# Altium integrated library TI_Logic_Little_Logic.IntLib: 1164 symbols (part 8 of 35)
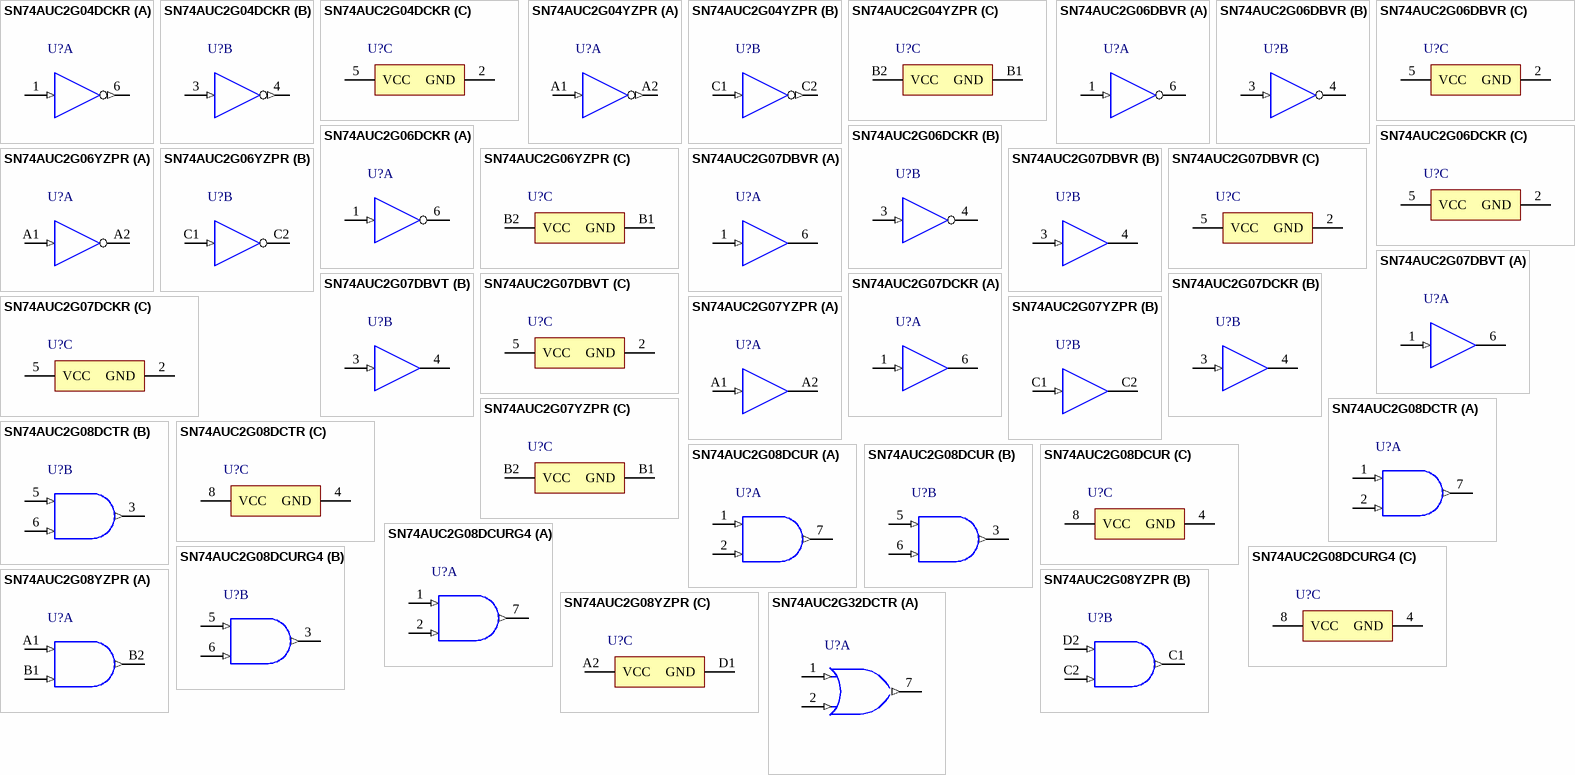
[diagram p67: symbols SN74AUC2G04DCKR to SN74AUC2G32DCTR]

## SN74AUC2G07DCKR
designator U?
Dual Buffer/Driver with Open-Drain Outputs, DCK0006A, LARGE T&R; Generic Part Number: SN74AUC2G07; Manufacturer: Texas Instruments; PartNumber: SN74AUC2G07DCKR; VCC(Min)(V): 1.8; VCC(Max)(V): 2.7; Output Type: CMOS; ICC @ Nom Voltage(Max)(mA): 0.01; Bits(#): 2; F @ Nom Voltage(Max)(Mhz): 250; Rating: Catalog; Technology Family: AUC; Voltage(Nom)(V): 0.8,1.2,1.5,1.8,2.5; Schmitt Trigger: No; Output Drive (IOL/IOH)(Max)(mA): 9/-9; tpd @ Nom Voltage(Max)(ns): 4.3,3,2.2,2.5,1.6; Logic: True; Sub-Family: Non-Inverting Buffer/Driver; DatasheetVersion: SCES443D; PackageReference: DCK0006A; Supplier 1: Mouser; Supplier Part Number 1: 595-SN74AUC2G07DCKR; Supplier 2: Digi-Key; Supplier Part Number 2: 296-18763-2-ND; Supplier 3: Digi-Key; Supplier Part Number 3: 296-18763-1-ND; Supplier 4: Digi-Key; Supplier Part Number 4: 296-18763-6-ND; Input Type: CMOS; Operating Temperature Range(C): -40 to 85; 3-State Output: No; ComponentLink1Description: Manufacturer URL; ComponentLink1URL: http://www.ti.com/; ComponentLink2Description: Datasheet; ComponentLink2URL: http://www.ti.com/lit/ds/symlink/sn74auc2g07.pdf
footprint DCK0006A_N (SOT23, 6-Leads, Body 2.15x1.4mm, Pitch 0.65mm, IPC Medium Density)
footprint DCK0006A_M (SOT23, 6-Leads, Body 2.15x1.4mm, Pitch 0.65mm, IPC Low Density)
footprint DCK0006A_L (SOT23, 6-Leads, Body 2.15x1.4mm, Pitch 0.65mm, IPC High Density)
part A pins: 1 1A (in) "Input 1", 6 1Y (oc) "Open-drain output 1"
part B pins: 3 2A (in) "Input 2", 4 2Y (oc) "Open-drain output 2"
part C pins: 2 GND (power) "Ground", 5 VCC (power) "Power pin"

## SN74AUC2G07YZPR
designator U?
Dual Buffer/Driver with Open-Drain Outputs, YZP0006ADAD, LARGE T&R; Generic Part Number: SN74AUC2G07; Manufacturer: Texas Instruments; PartNumber: SN74AUC2G07YZPR; VCC(Min)(V): 1.8; VCC(Max)(V): 2.7; Output Type: CMOS; ICC @ Nom Voltage(Max)(mA): 0.01; Bits(#): 2; F @ Nom Voltage(Max)(Mhz): 250; Rating: Catalog; Technology Family: AUC; Voltage(Nom)(V): 0.8,1.2,1.5,1.8,2.5; Schmitt Trigger: No; Output Drive (IOL/IOH)(Max)(mA): 9/-9; tpd @ Nom Voltage(Max)(ns): 4.3,3,2.2,2.5,1.6; Logic: True; Sub-Family: Non-Inverting Buffer/Driver; DatasheetVersion: SCES443D; PackageReference: YZP0006ADAD; Supplier 1: Mouser; Supplier Part Number 1: 595-SN74AUC2G07YZPR; Supplier 2: Digi-Key; Supplier Part Number 2: 296-18774-2-ND; Supplier 3: Digi-Key; Supplier Part Number 3: 296-18774-1-ND; Input Type: CMOS; Operating Temperature Range(C): -40 to 85; 3-State Output: No; ComponentLink1Description: Manufacturer URL; ComponentLink1URL: http://www.ti.com/; ComponentLink2Description: Datasheet; ComponentLink2URL: http://www.ti.com/lit/ds/symlink/sn74auc2g07.pdf
footprint YZP0006ADAD (BGA, 6-Balls, Body 1.39x0.89mm, Pitch 0.5mm)
part A pins: A1 1A (in), A2 1Y (oc)
part B pins: C1 2A (in), C2 2Y (oc)
part C pins: B1 GND (power), B2 VCC (power)

## SN74AUC2G08DCTR
designator U?
DUAL 2-INPUT POSITIVE-AND GATE, DCT0008A, LARGE T&R; Generic Part Number: SN74AUC2G08; Manufacturer: Texas Instruments; PartNumber: SN74AUC2G08DCTR; VCC(Min)(V): 0.8; VCC(Max)(V): 2.7; Output Type: CMOS; ICC @ Nom Voltage(Max)(mA): 0.01; Bits(#): 2; F @ Nom Voltage(Max)(Mhz): 250; Rating: Catalog; Technology Family: AUC; Voltage(Nom)(V): 0.8,1.2,1.5,1.8,2.5; Schmitt Trigger: No; Output Drive (IOL/IOH)(Max)(mA): 9/-9; tpd @ Nom Voltage(Max)(ns): 9.2,3,1.9,1.5,1; Logic: True; Gate Type: AND; DatasheetVersion: SCES477C; PackageReference: DCT0008A; Supplier 1: Mouser; Supplier Part Number 1: 595-SN74AUC2G08DCTR; Supplier 2: Digi-Key; Supplier Part Number 2: 296-18794-2-ND; Supplier 3: Digi-Key; Supplier Part Number 3: 296-18794-1-ND; Supplier 4: Digi-Key; Supplier Part Number 4: 296-18794-6-ND; Input Type: CMOS; Operating Temperature Range(C): -40 to 85; Sub-Family: AND Gate; 3-State Output: No; ComponentLink1Description: Manufacturer URL; ComponentLink1URL: http://www.ti.com/; ComponentLink2Description: Datasheet; ComponentLink2URL: http://www.ti.com/lit/ds/symlink/sn74auc2g08.pdf
footprint DCT0008A_N (SOP, 8-Leads, Body 2.9x3.2mm, Pitch 0.65mm, IPC Medium Density)
footprint DCT0008A_M (SOP, 8-Leads, Body 2.9x3.2mm, Pitch 0.65mm, IPC Low Density)
footprint DCT0008A_L (SOP, 8-Leads, Body 2.9x3.2mm, Pitch 0.65mm, IPC High Density)
part A pins: 1 1A (in), 2 1B (in), 7 1Y (out)
part B pins: 3 2Y (out), 5 2A (in), 6 2B (in)
part C pins: 4 GND (power), 8 VCC (power)

## SN74AUC2G08DCUR
designator U?
DUAL 2-INPUT POSITIVE-AND GATE, DCU0008A, LARGE T&R; Generic Part Number: SN74AUC2G08; Manufacturer: Texas Instruments; PartNumber: SN74AUC2G08DCUR; VCC(Min)(V): 0.8; VCC(Max)(V): 2.7; Output Type: CMOS; ICC @ Nom Voltage(Max)(mA): 0.01; Bits(#): 2; F @ Nom Voltage(Max)(Mhz): 250; Rating: Catalog; Technology Family: AUC; Voltage(Nom)(V): 0.8,1.2,1.5,1.8,2.5; Schmitt Trigger: No; Output Drive (IOL/IOH)(Max)(mA): 9/-9; tpd @ Nom Voltage(Max)(ns): 9.2,3,1.9,1.5,1; Logic: True; Gate Type: AND; DatasheetVersion: SCES477C; PackageReference: DCU0008A; Supplier 1: Mouser; Supplier Part Number 1: 595-SN74AUC2G08DCUR; Supplier 2: Digi-Key; Supplier Part Number 2: 296-18823-2-ND; Supplier 3: Digi-Key; Supplier Part Number 3: 296-18823-1-ND; Supplier 4: Digi-Key; Supplier Part Number 4: 296-18823-6-ND; Input Type: CMOS; Operating Temperature Range(C): -40 to 85; Sub-Family: AND Gate; 3-State Output: No; ComponentLink1Description: Manufacturer URL; ComponentLink1URL: http://www.ti.com/; ComponentLink2Description: Datasheet; ComponentLink2URL: http://www.ti.com/lit/ds/symlink/sn74auc2g08.pdf
footprint DCU0008A_N (SOP, 8-Leads, Body 2.4x2.1mm, Pitch 0.5mm, IPC Medium Density)
footprint DCU0008A_M (SOP, 8-Leads, Body 2.4x2.1mm, Pitch 0.5mm, IPC Low Density)
footprint DCU0008A_L (SOP, 8-Leads, Body 2.4x2.1mm, Pitch 0.5mm, IPC High Density)
part A pins: 1 1A (in), 2 1B (in), 7 1Y (out)
part B pins: 3 2Y (out), 5 2A (in), 6 2B (in)
part C pins: 4 GND (power), 8 VCC (power)

## SN74AUC2G08DCURG4
designator U?
DUAL 2-INPUT POSITIVE-AND GATE, DCU0008A, LARGE T&R; Generic Part Number: SN74AUC2G08; Manufacturer: Texas Instruments; PartNumber: SN74AUC2G08DCURG4; VCC(Min)(V): 0.8; VCC(Max)(V): 2.7; Output Type: CMOS; ICC @ Nom Voltage(Max)(mA): 0.01; Bits(#): 2; F @ Nom Voltage(Max)(Mhz): 250; Rating: Catalog; Technology Family: AUC; Voltage(Nom)(V): 0.8,1.2,1.5,1.8,2.5; Schmitt Trigger: No; Output Drive (IOL/IOH)(Max)(mA): 9/-9; tpd @ Nom Voltage(Max)(ns): 9.2,3,1.9,1.5,1; Logic: True; Gate Type: AND; DatasheetVersion: SCES477C; PackageReference: DCU0008A; Supplier 1: Mouser; Supplier Part Number 1: 595-74AUC2G08DCURG4; Supplier 2: Digi-Key; Supplier Part Number 2: SN74AUC2G08DCURG4-ND; Input Type: CMOS; Operating Temperature Range(C): -40 to 85; Sub-Family: AND Gate; 3-State Output: No; ComponentLink1Description: Manufacturer URL; ComponentLink1URL: http://www.ti.com/; ComponentLink2Description: Datasheet; ComponentLink2URL: http://www.ti.com/lit/ds/symlink/sn74auc2g08.pdf
footprint DCU0008A_N (SOP, 8-Leads, Body 2.4x2.1mm, Pitch 0.5mm, IPC Medium Density)
footprint DCU0008A_M (SOP, 8-Leads, Body 2.4x2.1mm, Pitch 0.5mm, IPC Low Density)
footprint DCU0008A_L (SOP, 8-Leads, Body 2.4x2.1mm, Pitch 0.5mm, IPC High Density)
part A pins: 1 1A (in), 2 1B (in), 7 1Y (out)
part B pins: 3 2Y (out), 5 2A (in), 6 2B (in)
part C pins: 4 GND (power), 8 VCC (power)

## SN74AUC2G08YZPR
designator U?
DUAL 2-INPUT POSITIVE-AND GATE, YZP0008ADAD, LARGE T&R; Generic Part Number: SN74AUC2G08; Manufacturer: Texas Instruments; PartNumber: SN74AUC2G08YZPR; VCC(Min)(V): 0.8; VCC(Max)(V): 2.7; Output Type: CMOS; ICC @ Nom Voltage(Max)(mA): 0.01; Bits(#): 2; F @ Nom Voltage(Max)(Mhz): 250; Rating: Catalog; Technology Family: AUC; Voltage(Nom)(V): 0.8,1.2,1.5,1.8,2.5; Schmitt Trigger: No; Output Drive (IOL/IOH)(Max)(mA): 9/-9; tpd @ Nom Voltage(Max)(ns): 9.2,3,1.9,1.5,1; Logic: True; Gate Type: AND; DatasheetVersion: SCES477C; PackageReference: YZP0008ADAD; Supplier 1: Mouser; Supplier Part Number 1: 595-SN74AUC2G08YZPR; Supplier 2: Digi-Key; Supplier Part Number 2: 296-17833-2-ND; Supplier 3: Digi-Key; Supplier Part Number 3: 296-17833-1-ND; Input Type: CMOS; Operating Temperature Range(C): -40 to 85; Sub-Family: AND Gate; 3-State Output: No; ComponentLink1Description: Manufacturer URL; ComponentLink1URL: http://www.ti.com/; ComponentLink2Description: Datasheet; ComponentLink2URL: http://www.ti.com/lit/ds/symlink/sn74auc2g08.pdf
footprint YZP0008ADAD (BGA, 8-Balls, Body 1.89x0.89mm, Pitch 0.5mm)
part A pins: A1 1A (in), B1 1B (in), B2 1Y (out)
part B pins: C1 2Y (out), C2 2B (in), D2 2A (in)
part C pins: A2 VCC (power), D1 GND (power)

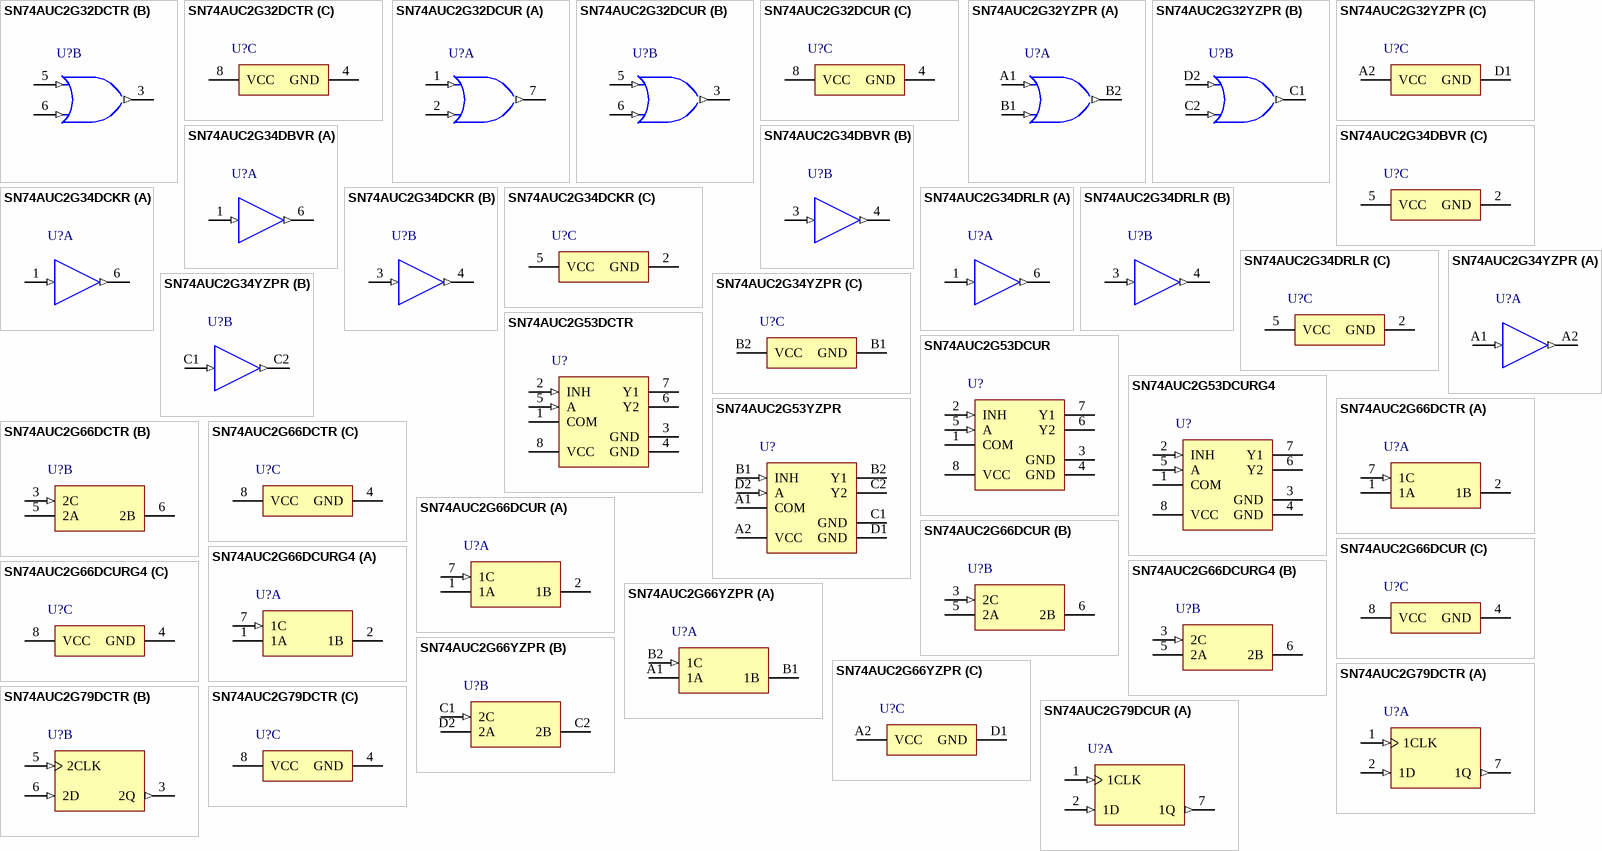
[diagram p12: symbols SN74AUC2G32DCTR to SN74AUC2G79DCUR]

## SN74AUC2G32DCTR
designator U?
DUAL 2-INPUT POSITIVE-OR GATE, DCT0008A, LARGE T&R; Generic Part Number: SN74AUC2G32; Manufacturer: Texas Instruments; PartNumber: SN74AUC2G32DCTR; VCC(Min)(V): 0.8; VCC(Max)(V): 2.7; Output Type: CMOS; ICC @ Nom Voltage(Max)(mA): 0.01; Bits(#): 2; F @ Nom Voltage(Max)(Mhz): 250; Rating: Catalog; Technology Family: AUC; Voltage(Nom)(V): 0.8,1.2,1.5,1.8,2.5; Schmitt Trigger: No; Output Drive (IOL/IOH)(Max)(mA): 9/-9; tpd @ Nom Voltage(Max)(ns): 7.5,3.3,1.9,1.5,1.1; Logic: True; Gate Type: OR; Sub-Family: OR Gate; DatasheetVersion: SCES478C; PackageReference: DCT0008A; Supplier 1: Mouser; Supplier Part Number 1: 595-SN74AUC2G32DCTR; Supplier 2: Digi-Key; Supplier Part Number 2: 296-18886-2-ND; Supplier 3: Digi-Key; Supplier Part Number 3: 296-18886-1-ND; Supplier 4: Digi-Key; Supplier Part Number 4: 296-18886-6-ND; Input Type: CMOS; Operating Temperature Range(C): -40 to 85; 3-State Output: No; ComponentLink1Description: Manufacturer URL; ComponentLink1URL: http://www.ti.com/; ComponentLink2Description: Datasheet; ComponentLink2URL: http://www.ti.com/lit/ds/symlink/sn74auc2g32.pdf
footprint DCT0008A_N (SOP, 8-Leads, Body 2.9x3.2mm, Pitch 0.65mm, IPC Medium Density)
footprint DCT0008A_M (SOP, 8-Leads, Body 2.9x3.2mm, Pitch 0.65mm, IPC Low Density)
footprint DCT0008A_L (SOP, 8-Leads, Body 2.9x3.2mm, Pitch 0.65mm, IPC High Density)
part A pins: 1 1A (in), 2 1B (in), 7 1Y (out)
part B pins: 3 2Y (out), 5 2A (in), 6 2B (in)
part C pins: 4 GND (power), 8 VCC (power)

## SN74AUC2G32DCUR
designator U?
DUAL 2-INPUT POSITIVE-OR GATE, DCU0008A, LARGE T&R; Generic Part Number: SN74AUC2G32; Manufacturer: Texas Instruments; PartNumber: SN74AUC2G32DCUR; VCC(Min)(V): 0.8; VCC(Max)(V): 2.7; Output Type: CMOS; ICC @ Nom Voltage(Max)(mA): 0.01; Bits(#): 2; F @ Nom Voltage(Max)(Mhz): 250; Rating: Catalog; Technology Family: AUC; Voltage(Nom)(V): 0.8,1.2,1.5,1.8,2.5; Schmitt Trigger: No; Output Drive (IOL/IOH)(Max)(mA): 9/-9; tpd @ Nom Voltage(Max)(ns): 7.5,3.3,1.9,1.5,1.1; Logic: True; Gate Type: OR; Sub-Family: OR Gate; DatasheetVersion: SCES478C; PackageReference: DCU0008A; Supplier 1: Mouser; Supplier Part Number 1: 595-SN74AUC2G32DCUR; Supplier 2: Digi-Key; Supplier Part Number 2: 296-18887-2-ND; Supplier 3: Digi-Key; Supplier Part Number 3: 296-18887-1-ND; Supplier 4: Digi-Key; Supplier Part Number 4: 296-18887-6-ND; Input Type: CMOS; Operating Temperature Range(C): -40 to 85; 3-State Output: No; ComponentLink1Description: Manufacturer URL; ComponentLink1URL: http://www.ti.com/; ComponentLink2Description: Datasheet; ComponentLink2URL: http://www.ti.com/lit/ds/symlink/sn74auc2g32.pdf
footprint DCU0008A_N (SOP, 8-Leads, Body 2.4x2.1mm, Pitch 0.5mm, IPC Medium Density)
footprint DCU0008A_M (SOP, 8-Leads, Body 2.4x2.1mm, Pitch 0.5mm, IPC Low Density)
footprint DCU0008A_L (SOP, 8-Leads, Body 2.4x2.1mm, Pitch 0.5mm, IPC High Density)
part A pins: 1 1A (in), 2 1B (in), 7 1Y (out)
part B pins: 3 2Y (out), 5 2A (in), 6 2B (in)
part C pins: 4 GND (power), 8 VCC (power)

## SN74AUC2G32YZPR
designator U?
DUAL 2-INPUT POSITIVE-OR GATE, YZP0008ADAD, LARGE T&R; Generic Part Number: SN74AUC2G32; Manufacturer: Texas Instruments; PartNumber: SN74AUC2G32YZPR; VCC(Min)(V): 0.8; VCC(Max)(V): 2.7; Output Type: CMOS; ICC @ Nom Voltage(Max)(mA): 0.01; Bits(#): 2; F @ Nom Voltage(Max)(Mhz): 250; Rating: Catalog; Technology Family: AUC; Voltage(Nom)(V): 0.8,1.2,1.5,1.8,2.5; Schmitt Trigger: No; Output Drive (IOL/IOH)(Max)(mA): 9/-9; tpd @ Nom Voltage(Max)(ns): 7.5,3.3,1.9,1.5,1.1; Logic: True; Gate Type: OR; Sub-Family: OR Gate; DatasheetVersion: SCES478C; PackageReference: YZP0008ADAD; Supplier 1: Mouser; Supplier Part Number 1: 595-SN74AUC2G32YZPR; Supplier 2: Digi-Key; Supplier Part Number 2: 296-22013-2-ND; Supplier 3: Digi-Key; Supplier Part Number 3: 296-22013-1-ND; Supplier 4: Digi-Key; Supplier Part Number 4: 296-22013-6-ND; Input Type: CMOS; Operating Temperature Range(C): -40 to 85; 3-State Output: No; ComponentLink1Description: Manufacturer URL; ComponentLink1URL: http://www.ti.com/; ComponentLink2Description: Datasheet; ComponentLink2URL: http://www.ti.com/lit/ds/symlink/sn74auc2g32.pdf
footprint YZP0008ADAD (BGA, 8-Balls, Body 1.89x0.89mm, Pitch 0.5mm)
part A pins: A1 1A (in), B1 1B (in), B2 1Y (out)
part B pins: C1 2Y (out), C2 2B (in), D2 2A (in)
part C pins: A2 VCC (power), D1 GND (power)

## SN74AUC2G34DBVR
designator U?
Dual Buffer Gate, DBV0006A, LARGE T&R; Generic Part Number: SN74AUC2G34; Manufacturer: Texas Instruments; PartNumber: SN74AUC2G34DBVR; VCC(Min)(V): 0.8; VCC(Max)(V): 2.7; Output Type: CMOS; ICC @ Nom Voltage(Max)(mA): 0.01; Bits(#): 2; F @ Nom Voltage(Max)(Mhz): 250; Rating: Catalog; Technology Family: AUC; Voltage(Nom)(V): 0.8,1.2,1.5,1.8,2.5; Schmitt Trigger: No; Output Drive (IOL/IOH)(Max)(mA): 9/-9; tpd @ Nom Voltage(Max)(ns): 6.4,3.4,2.3,1.6,1.2; Logic: True; Sub-Family: Non-Inverting Buffer/Driver; DatasheetVersion: SCES514B; PackageReference: DBV0006A; Supplier 1: Mouser; Supplier Part Number 1: 595-SN74AUC2G34DBVR; Supplier 2: Digi-Key; Supplier Part Number 2: 296-17231-2-ND; Supplier 3: Digi-Key; Supplier Part Number 3: 296-17231-1-ND; Supplier 4: Digi-Key; Supplier Part Number 4: 296-17231-6-ND; Input Type: CMOS; Operating Temperature Range(C): -40 to 85; 3-State Output: No; ComponentLink1Description: Manufacturer URL; ComponentLink1URL: http://www.ti.com/; ComponentLink2Description: Datasheet; ComponentLink2URL: http://www.ti.com/lit/ds/symlink/sn74auc2g34.pdf
footprint DBV0006A_N (SOT23, 6-Leads, Body 3.05x1.75mm, Pitch 0.95mm, IPC Medium Density)
footprint DBV0006A_M (SOT23, 6-Leads, Body 3.05x1.75mm, Pitch 0.95mm, IPC Low Density)
footprint DBV0006A_L (SOT23, 6-Leads, Body 3.05x1.75mm, Pitch 0.95mm, IPC High Density)
part A pins: 1 1A (in), 6 1Y (out)
part B pins: 3 2A (in), 4 2Y (out)
part C pins: 2 GND (power), 5 VCC (power)

## SN74AUC2G34DCKR
designator U?
Dual Buffer Gate, DCK0006A, LARGE T&R; Generic Part Number: SN74AUC2G34; Manufacturer: Texas Instruments; PartNumber: SN74AUC2G34DCKR; VCC(Min)(V): 0.8; VCC(Max)(V): 2.7; Output Type: CMOS; ICC @ Nom Voltage(Max)(mA): 0.01; Bits(#): 2; F @ Nom Voltage(Max)(Mhz): 250; Rating: Catalog; Technology Family: AUC; Voltage(Nom)(V): 0.8,1.2,1.5,1.8,2.5; Schmitt Trigger: No; Output Drive (IOL/IOH)(Max)(mA): 9/-9; tpd @ Nom Voltage(Max)(ns): 6.4,3.4,2.3,1.6,1.2; Logic: True; Sub-Family: Non-Inverting Buffer/Driver; DatasheetVersion: SCES514B; PackageReference: DCK0006A; Supplier 1: Mouser; Supplier Part Number 1: 595-SN74AUC2G34DCKR; Supplier 2: Digi-Key; Supplier Part Number 2: 296-18939-2-ND; Supplier 3: Digi-Key; Supplier Part Number 3: 296-18939-1-ND; Supplier 4: Digi-Key; Supplier Part Number 4: 296-18939-6-ND; Input Type: CMOS; Operating Temperature Range(C): -40 to 85; 3-State Output: No; ComponentLink1Description: Manufacturer URL; ComponentLink1URL: http://www.ti.com/; ComponentLink2Description: Datasheet; ComponentLink2URL: http://www.ti.com/lit/ds/symlink/sn74auc2g34.pdf
footprint DCK0006A_N (SOT23, 6-Leads, Body 2.15x1.4mm, Pitch 0.65mm, IPC Medium Density)
footprint DCK0006A_M (SOT23, 6-Leads, Body 2.15x1.4mm, Pitch 0.65mm, IPC Low Density)
footprint DCK0006A_L (SOT23, 6-Leads, Body 2.15x1.4mm, Pitch 0.65mm, IPC High Density)
part A pins: 1 1A (in), 6 1Y (out)
part B pins: 3 2A (in), 4 2Y (out)
part C pins: 2 GND (power), 5 VCC (power)

## SN74AUC2G34DRLR
designator U?
Dual Buffer Gate, DRL0006A, LARGE T&R; Generic Part Number: SN74AUC2G34; Manufacturer: Texas Instruments; PartNumber: SN74AUC2G34DRLR; VCC(Min)(V): 0.8; VCC(Max)(V): 2.7; Output Type: CMOS; ICC @ Nom Voltage(Max)(mA): 0.01; Bits(#): 2; F @ Nom Voltage(Max)(Mhz): 250; Rating: Catalog; Technology Family: AUC; Voltage(Nom)(V): 0.8,1.2,1.5,1.8,2.5; Schmitt Trigger: No; Output Drive (IOL/IOH)(Max)(mA): 9/-9; tpd @ Nom Voltage(Max)(ns): 6.4,3.4,2.3,1.6,1.2; Logic: True; Sub-Family: Non-Inverting Buffer/Driver; DatasheetVersion: SCES514B; PackageReference: DRL0006A; Supplier 1: Mouser; Supplier Part Number 1: 595-SN74AUC2G34DRLR; Supplier 2: Digi-Key; Supplier Part Number 2: 296-18648-2-ND; Supplier 3: Digi-Key; Supplier Part Number 3: 296-18648-1-ND; Supplier 4: Digi-Key; Supplier Part Number 4: 296-18648-6-ND; Input Type: CMOS; Operating Temperature Range(C): -40 to 85; 3-State Output: No; ComponentLink1Description: Manufacturer URL; ComponentLink1URL: http://www.ti.com/; ComponentLink2Description: Datasheet; ComponentLink2URL: http://www.ti.com/lit/ds/symlink/sn74auc2g34.pdf
footprint DRL0006A_N (SOT23, 6-Leads, Body 1.7x1.3mm, Pitch 0.5mm, IPC Medium Density)
footprint DRL0006A_M (SOT23, 6-Leads, Body 1.7x1.3mm, Pitch 0.5mm, IPC Low Density)
footprint DRL0006A_L (SOT23, 6-Leads, Body 1.7x1.3mm, Pitch 0.5mm, IPC High Density)
part A pins: 1 1A (in), 6 1Y (out)
part B pins: 3 2A (in), 4 2Y (out)
part C pins: 2 GND (power), 5 VCC (power)

## SN74AUC2G34YZPR
designator U?
Dual Buffer Gate, YZP0006ADAD, LARGE T&R; Generic Part Number: SN74AUC2G34; Manufacturer: Texas Instruments; PartNumber: SN74AUC2G34YZPR; VCC(Min)(V): 0.8; VCC(Max)(V): 2.7; Output Type: CMOS; ICC @ Nom Voltage(Max)(mA): 0.01; Bits(#): 2; F @ Nom Voltage(Max)(Mhz): 250; Rating: Catalog; Technology Family: AUC; Voltage(Nom)(V): 0.8,1.2,1.5,1.8,2.5; Schmitt Trigger: No; Output Drive (IOL/IOH)(Max)(mA): 9/-9; tpd @ Nom Voltage(Max)(ns): 6.4,3.4,2.3,1.6,1.2; Logic: True; Sub-Family: Non-Inverting Buffer/Driver; DatasheetVersion: SCES514B; PackageReference: YZP0006ADAD; Supplier 1: Mouser; Supplier Part Number 1: 595-SN74AUC2G34YZPR; Supplier 2: Digi-Key; Supplier Part Number 2: 296-15981-2-ND; Supplier 3: Digi-Key; Supplier Part Number 3: 296-15981-1-ND; Input Type: CMOS; Operating Temperature Range(C): -40 to 85; 3-State Output: No; ComponentLink1Description: Manufacturer URL; ComponentLink1URL: http://www.ti.com/; ComponentLink2Description: Datasheet; ComponentLink2URL: http://www.ti.com/lit/ds/symlink/sn74auc2g34.pdf
footprint YZP0006ADAD (BGA, 6-Balls, Body 1.39x0.89mm, Pitch 0.5mm)
part A pins: A1 1A (in), A2 1Y (out)
part B pins: C1 2A (in), C2 2Y (out)
part C pins: B1 GND (power), B2 VCC (power)

## SN74AUC2G53DCTR
designator U?
Single Pole, Double-Throw (SPDT) Analog Switch or 2:1 Analog Multiplexer/Demultiplexer, DCT0008A, LARGE T&R; Generic Part Number: SN74AUC2G53; Manufacturer: Texas Instruments; PartNumber: SN74AUC2G53DCTR; VCC(Min)(V): 0.8; VCC(Max)(V): 2.7; Output Type: CMOS; Logic: True; ICC @ Nom Voltage(Max)(mA): 0.01; Bits(#): 2; F @ Nom Voltage(Max)(Mhz): 250; Channels(#): 1; Rating: Catalog; Technology Family: AUC; Voltage(Nom)(V): 0.8,1.2,1.5,1.8,2.5; Schmitt Trigger: No; Output Drive (IOL/IOH)(Max)(mA): 9/-9; Mux Configuration: 1：2; tpd @ Nom Voltage(Max)(ns): 0.3,0.2,0.1; DatasheetVersion: SCES484C; PackageReference: DCT0008A; Supplier 1: Mouser; Supplier Part Number 1: 595-SN74AUC2G53DCTR; Supplier 2: Digi-Key; Supplier Part Number 2: 296-16634-2-ND; Supplier 3: Digi-Key; Supplier Part Number 3: 296-16634-1-ND; Supplier 4: Digi-Key; Supplier Part Number 4: 296-16634-6-ND; Input Type: CMOS; Operating Temperature Range(C): -40 to 85; Sub-Family: Analog Switch; 3-State Output: No; Switch Configuration: SPDT; ComponentLink1Description: Manufacturer URL; ComponentLink1URL: http://www.ti.com/; ComponentLink2Description: Datasheet; ComponentLink2URL: http://www.ti.com/lit/ds/symlink/sn74auc2g53.pdf
footprint DCT0008A_N (SOP, 8-Leads, Body 2.9x3.2mm, Pitch 0.65mm, IPC Medium Density)
footprint DCT0008A_M (SOP, 8-Leads, Body 2.9x3.2mm, Pitch 0.65mm, IPC Low Density)
footprint DCT0008A_L (SOP, 8-Leads, Body 2.9x3.2mm, Pitch 0.65mm, IPC High Density)
pins: 1 COM, 2 INH (in), 3 GND (power), 4 GND (power), 5 A (in), 6 Y2, 7 Y1, 8 VCC (power)

## SN74AUC2G53DCUR
designator U?
Single Pole, Double-Throw (SPDT) Analog Switch or 2:1 Analog Multiplexer/Demultiplexer, DCU0008A, LARGE T&R; Generic Part Number: SN74AUC2G53; Manufacturer: Texas Instruments; PartNumber: SN74AUC2G53DCUR; VCC(Min)(V): 0.8; VCC(Max)(V): 2.7; Output Type: CMOS; Logic: True; ICC @ Nom Voltage(Max)(mA): 0.01; Bits(#): 2; F @ Nom Voltage(Max)(Mhz): 250; Channels(#): 1; Rating: Catalog; Technology Family: AUC; Voltage(Nom)(V): 0.8,1.2,1.5,1.8,2.5; Schmitt Trigger: No; Output Drive (IOL/IOH)(Max)(mA): 9/-9; Mux Configuration: 1：2; tpd @ Nom Voltage(Max)(ns): 0.3,0.2,0.1; DatasheetVersion: SCES484C; PackageReference: DCU0008A; Supplier 1: Mouser; Supplier Part Number 1: 595-SN74AUC2G53DCUR; Supplier 2: Digi-Key; Supplier Part Number 2: 296-19051-2-ND; Supplier 3: Digi-Key; Supplier Part Number 3: 296-19051-1-ND; Supplier 4: Digi-Key; Supplier Part Number 4: 296-19051-6-ND; Input Type: CMOS; Operating Temperature Range(C): -40 to 85; Sub-Family: Analog Switch; 3-State Output: No; Switch Configuration: SPDT; ComponentLink1Description: Manufacturer URL; ComponentLink1URL: http://www.ti.com/; ComponentLink2Description: Datasheet; ComponentLink2URL: http://www.ti.com/lit/ds/symlink/sn74auc2g53.pdf
footprint DCU0008A_N (SOP, 8-Leads, Body 2.4x2.1mm, Pitch 0.5mm, IPC Medium Density)
footprint DCU0008A_M (SOP, 8-Leads, Body 2.4x2.1mm, Pitch 0.5mm, IPC Low Density)
footprint DCU0008A_L (SOP, 8-Leads, Body 2.4x2.1mm, Pitch 0.5mm, IPC High Density)
pins: 1 COM, 2 INH (in), 3 GND (power), 4 GND (power), 5 A (in), 6 Y2, 7 Y1, 8 VCC (power)

## SN74AUC2G53DCURG4
designator U?
Single Pole, Double-Throw (SPDT) Analog Switch or 2:1 Analog Multiplexer/Demultiplexer, DCU0008A, LARGE T&R; Generic Part Number: SN74AUC2G53; Manufacturer: Texas Instruments; PartNumber: SN74AUC2G53DCURG4; VCC(Min)(V): 0.8; VCC(Max)(V): 2.7; Output Type: CMOS; Logic: True; ICC @ Nom Voltage(Max)(mA): 0.01; Bits(#): 2; F @ Nom Voltage(Max)(Mhz): 250; Channels(#): 1; Rating: Catalog; Technology Family: AUC; Voltage(Nom)(V): 0.8,1.2,1.5,1.8,2.5; Schmitt Trigger: No; Output Drive (IOL/IOH)(Max)(mA): 9/-9; Mux Configuration: 1：2; tpd @ Nom Voltage(Max)(ns): 0.3,0.2,0.1; DatasheetVersion: SCES484C; PackageReference: DCU0008A; Supplier 1: Mouser; Supplier Part Number 1: 595-74AUC2G53DCURG4; Supplier 2: Digi-Key; Supplier Part Number 2: SN74AUC2G53DCURG4-ND; Input Type: CMOS; Operating Temperature Range(C): -40 to 85; Sub-Family: Analog Switch; 3-State Output: No; Switch Configuration: SPDT; ComponentLink1Description: Manufacturer URL; ComponentLink1URL: http://www.ti.com/; ComponentLink2Description: Datasheet; ComponentLink2URL: http://www.ti.com/lit/ds/symlink/sn74auc2g53.pdf
footprint DCU0008A_N (SOP, 8-Leads, Body 2.4x2.1mm, Pitch 0.5mm, IPC Medium Density)
footprint DCU0008A_M (SOP, 8-Leads, Body 2.4x2.1mm, Pitch 0.5mm, IPC Low Density)
footprint DCU0008A_L (SOP, 8-Leads, Body 2.4x2.1mm, Pitch 0.5mm, IPC High Density)
pins: 1 COM, 2 INH (in), 3 GND (power), 4 GND (power), 5 A (in), 6 Y2, 7 Y1, 8 VCC (power)

## SN74AUC2G53YZPR
designator U?
Single Pole, Double-Throw (SPDT) Analog Switch or 2:1 Analog Multiplexer/Demultiplexer, YZP0008ADAD, LARGE T&R; Generic Part Number: SN74AUC2G53; Manufacturer: Texas Instruments; PartNumber: SN74AUC2G53YZPR; VCC(Min)(V): 0.8; VCC(Max)(V): 2.7; Output Type: CMOS; Logic: True; ICC @ Nom Voltage(Max)(mA): 0.01; Bits(#): 2; F @ Nom Voltage(Max)(Mhz): 250; Channels(#): 1; Rating: Catalog; Technology Family: AUC; Voltage(Nom)(V): 0.8,1.2,1.5,1.8,2.5; Schmitt Trigger: No; Output Drive (IOL/IOH)(Max)(mA): 9/-9; Mux Configuration: 1：2; tpd @ Nom Voltage(Max)(ns): 0.3,0.2,0.1; DatasheetVersion: SCES484C; PackageReference: YZP0008ADAD; Supplier 1: Mouser; Supplier Part Number 1: 595-SN74AUC2G53YZPR; Supplier 2: Digi-Key; Supplier Part Number 2: 296-19052-2-ND; Supplier 3: Digi-Key; Supplier Part Number 3: 296-19052-1-ND; Supplier 4: Digi-Key; Supplier Part Number 4: 296-19052-6-ND; Input Type: CMOS; Operating Temperature Range(C): -40 to 85; Sub-Family: Analog Switch; 3-State Output: No; Switch Configuration: SPDT; ComponentLink1Description: Manufacturer URL; ComponentLink1URL: http://www.ti.com/; ComponentLink2Description: Datasheet; ComponentLink2URL: http://www.ti.com/lit/ds/symlink/sn74auc2g53.pdf
footprint YZP0008ADAD (BGA, 8-Balls, Body 1.89x0.89mm, Pitch 0.5mm)
pins: A1 COM, A2 VCC (power), B1 INH (in), B2 Y1, C1 GND (power), C2 Y2, D1 GND (power), D2 A (in)

## SN74AUC2G66DCTR
designator U?
Dual Bilateral Analog Switch, DCT0008A, LARGE T&R; Generic Part Number: SN74AUC2G66; Manufacturer: Texas Instruments; PartNumber: SN74AUC2G66DCTR; VCC(Min)(V): 0.8; VCC(Max)(V): 2.7; Output Type: CMOS; Logic: True; ICC @ Nom Voltage(Max)(mA): 0.01; Bits(#): 2; F @ Nom Voltage(Max)(Mhz): 250; Channels(#): 1; Rating: Catalog; Technology Family: AUC; Voltage(Nom)(V): 0.8,1.2,1.5,1.8,2.5; Schmitt Trigger: No; Output Drive (IOL/IOH)(Max)(mA): 9/-9; Switch Configuration: SPST; tpd @ Nom Voltage(Max)(ns): 1,0.6,0.5,0.4; DatasheetVersion: SCES507A; PackageReference: DCT0008A; Supplier 1: Mouser; Supplier Part Number 1: 595-SN74AUC2G66DCTR; Supplier 2: Digi-Key; Supplier Part Number 2: 296-19053-2-ND; Supplier 3: Digi-Key; Supplier Part Number 3: 296-19053-1-ND; Supplier 4: Digi-Key; Supplier Part Number 4: 296-19053-6-ND; Input Type: CMOS; Operating Temperature Range(C): -40 to 85; Sub-Family: Analog Switch; 3-State Output: No; ComponentLink1Description: Manufacturer URL; ComponentLink1URL: http://www.ti.com/; ComponentLink2Description: Datasheet; ComponentLink2URL: http://www.ti.com/lit/ds/symlink/sn74auc2g66.pdf
footprint DCT0008A_N (SOP, 8-Leads, Body 2.9x3.2mm, Pitch 0.65mm, IPC Medium Density)
footprint DCT0008A_M (SOP, 8-Leads, Body 2.9x3.2mm, Pitch 0.65mm, IPC Low Density)
footprint DCT0008A_L (SOP, 8-Leads, Body 2.9x3.2mm, Pitch 0.65mm, IPC High Density)
part A pins: 1 1A, 2 1B, 7 1C (in)
part B pins: 3 2C (in), 5 2A, 6 2B
part C pins: 4 GND (power), 8 VCC (power)

## SN74AUC2G66DCUR
designator U?
Dual Bilateral Analog Switch, DCU0008A, LARGE T&R; Generic Part Number: SN74AUC2G66; Manufacturer: Texas Instruments; PartNumber: SN74AUC2G66DCUR; VCC(Min)(V): 0.8; VCC(Max)(V): 2.7; Output Type: CMOS; Logic: True; ICC @ Nom Voltage(Max)(mA): 0.01; Bits(#): 2; F @ Nom Voltage(Max)(Mhz): 250; Channels(#): 1; Rating: Catalog; Technology Family: AUC; Voltage(Nom)(V): 0.8,1.2,1.5,1.8,2.5; Schmitt Trigger: No; Output Drive (IOL/IOH)(Max)(mA): 9/-9; Switch Configuration: SPST; tpd @ Nom Voltage(Max)(ns): 1,0.6,0.5,0.4; DatasheetVersion: SCES507A; PackageReference: DCU0008A; Supplier 1: Mouser; Supplier Part Number 1: 595-SN74AUC2G66DCUR; Supplier 2: Digi-Key; Supplier Part Number 2: 296-19054-2-ND; Supplier 3: Digi-Key; Supplier Part Number 3: 296-19054-1-ND; Supplier 4: Digi-Key; Supplier Part Number 4: 296-19054-6-ND; Input Type: CMOS; Operating Temperature Range(C): -40 to 85; Sub-Family: Analog Switch; 3-State Output: No; ComponentLink1Description: Manufacturer URL; ComponentLink1URL: http://www.ti.com/; ComponentLink2Description: Datasheet; ComponentLink2URL: http://www.ti.com/lit/ds/symlink/sn74auc2g66.pdf
footprint DCU0008A_N (SOP, 8-Leads, Body 2.4x2.1mm, Pitch 0.5mm, IPC Medium Density)
footprint DCU0008A_M (SOP, 8-Leads, Body 2.4x2.1mm, Pitch 0.5mm, IPC Low Density)
footprint DCU0008A_L (SOP, 8-Leads, Body 2.4x2.1mm, Pitch 0.5mm, IPC High Density)
part A pins: 1 1A, 2 1B, 7 1C (in)
part B pins: 3 2C (in), 5 2A, 6 2B
part C pins: 4 GND (power), 8 VCC (power)

## SN74AUC2G66DCURG4
designator U?
Dual Bilateral Analog Switch, DCU0008A, LARGE T&R; Generic Part Number: SN74AUC2G66; Manufacturer: Texas Instruments; PartNumber: SN74AUC2G66DCURG4; VCC(Min)(V): 0.8; VCC(Max)(V): 2.7; Output Type: CMOS; Logic: True; ICC @ Nom Voltage(Max)(mA): 0.01; Bits(#): 2; F @ Nom Voltage(Max)(Mhz): 250; Channels(#): 1; Rating: Catalog; Technology Family: AUC; Voltage(Nom)(V): 0.8,1.2,1.5,1.8,2.5; Schmitt Trigger: No; Output Drive (IOL/IOH)(Max)(mA): 9/-9; Switch Configuration: SPST; tpd @ Nom Voltage(Max)(ns): 1,0.6,0.5,0.4; DatasheetVersion: SCES507A; PackageReference: DCU0008A; Supplier 1: Mouser; Supplier Part Number 1: 595-74AUC2G66DCURG4; Supplier 2: Digi-Key; Supplier Part Number 2: SN74AUC2G66DCURG4-ND; Input Type: CMOS; Operating Temperature Range(C): -40 to 85; Sub-Family: Analog Switch; 3-State Output: No; ComponentLink1Description: Manufacturer URL; ComponentLink1URL: http://www.ti.com/; ComponentLink2Description: Datasheet; ComponentLink2URL: http://www.ti.com/lit/ds/symlink/sn74auc2g66.pdf
footprint DCU0008A_N (SOP, 8-Leads, Body 2.4x2.1mm, Pitch 0.5mm, IPC Medium Density)
footprint DCU0008A_M (SOP, 8-Leads, Body 2.4x2.1mm, Pitch 0.5mm, IPC Low Density)
footprint DCU0008A_L (SOP, 8-Leads, Body 2.4x2.1mm, Pitch 0.5mm, IPC High Density)
part A pins: 1 1A, 2 1B, 7 1C (in)
part B pins: 3 2C (in), 5 2A, 6 2B
part C pins: 4 GND (power), 8 VCC (power)

## SN74AUC2G66YZPR
designator U?
Dual Bilateral Analog Switch, YZP0008ADAD, LARGE T&R; Generic Part Number: SN74AUC2G66; Manufacturer: Texas Instruments; PartNumber: SN74AUC2G66YZPR; VCC(Min)(V): 0.8; VCC(Max)(V): 2.7; Output Type: CMOS; Logic: True; ICC @ Nom Voltage(Max)(mA): 0.01; Bits(#): 2; F @ Nom Voltage(Max)(Mhz): 250; Channels(#): 1; Rating: Catalog; Technology Family: AUC; Voltage(Nom)(V): 0.8,1.2,1.5,1.8,2.5; Schmitt Trigger: No; Output Drive (IOL/IOH)(Max)(mA): 9/-9; Switch Configuration: SPST; tpd @ Nom Voltage(Max)(ns): 1,0.6,0.5,0.4; DatasheetVersion: SCES507A; PackageReference: YZP0008ADAD; Supplier 1: Mouser; Supplier Part Number 1: 595-SN74AUC2G66YZPR; Supplier 2: Digi-Key; Supplier Part Number 2: 296-19055-2-ND; Supplier 3: Digi-Key; Supplier Part Number 3: 296-19055-1-ND; Supplier 4: Digi-Key; Supplier Part Number 4: 296-19055-6-ND; Input Type: CMOS; Operating Temperature Range(C): -40 to 85; Sub-Family: Analog Switch; 3-State Output: No; ComponentLink1Description: Manufacturer URL; ComponentLink1URL: http://www.ti.com/; ComponentLink2Description: Datasheet; ComponentLink2URL: http://www.ti.com/lit/ds/symlink/sn74auc2g66.pdf
footprint YZP0008ADAD (BGA, 8-Balls, Body 1.89x0.89mm, Pitch 0.5mm)
part A pins: A1 1A, B1 1B, B2 1C (in)
part B pins: C1 2C (in), C2 2B, D2 2A
part C pins: A2 VCC (power), D1 GND (power)

## SN74AUC2G79DCTR
designator U?
Dual Positive-Edge-Triggered D-Type Flip-Flop, DCT0008A, LARGE T&R; Generic Part Number: SN74AUC2G79; Manufacturer: Texas Instruments; PartNumber: SN74AUC2G79DCTR; VCC(Min)(V): 0.8; VCC(Max)(V): 2.7; Output Type: CMOS; ICC @ Nom Voltage(Max)(mA): 0.01; Bits(#): 2; F @ Nom Voltage(Max)(Mhz): 250; Rating: Catalog; Technology Family: AUC; Voltage(Nom)(V): 0.8,1.2,1.5,1.8,2.5; Schmitt Trigger: No; Output Drive (IOL/IOH)(Max)(mA): 9/-9; tpd @ Nom Voltage(Max)(ns): 5,3.9,2.5,1.9,1.3; Logic: True; DatasheetVersion: SCES536C; PackageReference: DCT0008A; Supplier 1: Mouser; Supplier Part Number 1: 595-SN74AUC2G79DCTR; Supplier 2: Digi-Key; Supplier Part Number 2: 296-19056-2-ND; Supplier 3: Digi-Key; Supplier Part Number 3: 296-19056-1-ND; Supplier 4: Digi-Key; Supplier Part Number 4: 296-19056-6-ND; Input Type: CMOS; Operating Temperature Range(C): -40 to 85; 3-State Output: No; Sub-Family: D-Type Flip-Flop; ComponentLink1Description: Manufacturer URL; ComponentLink1URL: http://www.ti.com/; ComponentLink2Description: Datasheet; ComponentLink2URL: http://www.ti.com/lit/ds/symlink/sn74auc2g79.pdf
footprint DCT0008A_N (SOP, 8-Leads, Body 2.9x3.2mm, Pitch 0.65mm, IPC Medium Density)
footprint DCT0008A_M (SOP, 8-Leads, Body 2.9x3.2mm, Pitch 0.65mm, IPC Low Density)
footprint DCT0008A_L (SOP, 8-Leads, Body 2.9x3.2mm, Pitch 0.65mm, IPC High Density)
part A pins: 1 1CLK (in), 2 1D (in), 7 1Q (out)
part B pins: 3 2Q (out), 5 2CLK (in), 6 2D (in)
part C pins: 4 GND (power), 8 VCC (power)

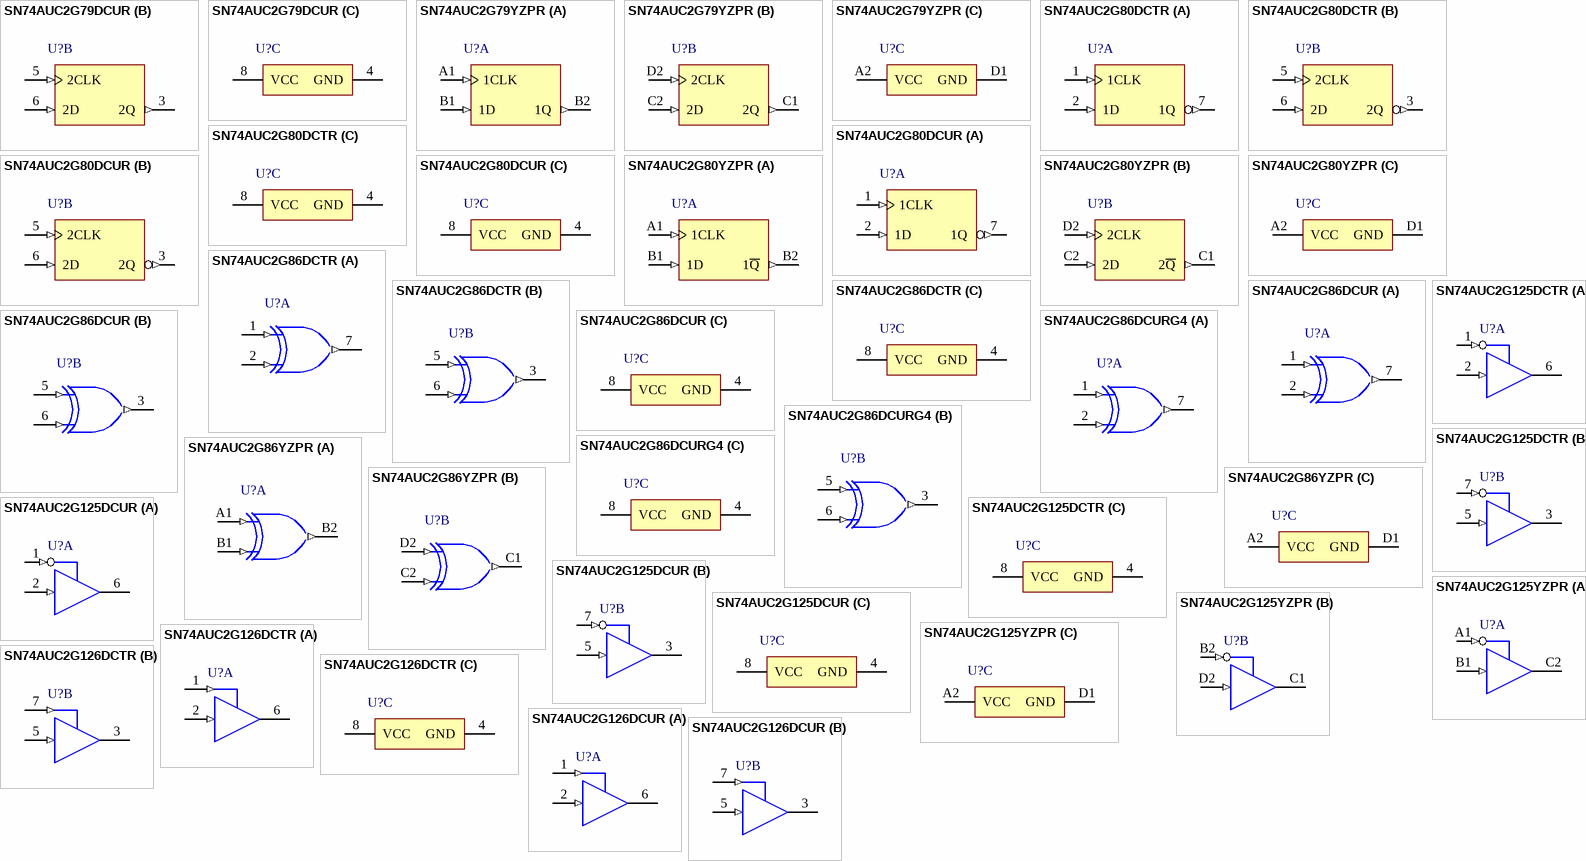
[diagram p13: symbols SN74AUC2G79DCUR to SN74AUC2G126DCUR]

## SN74AUC2G79DCUR
designator U?
Dual Positive-Edge-Triggered D-Type Flip-Flop, DCU0008A, LARGE T&R; Generic Part Number: SN74AUC2G79; Manufacturer: Texas Instruments; PartNumber: SN74AUC2G79DCUR; VCC(Min)(V): 0.8; VCC(Max)(V): 2.7; Output Type: CMOS; ICC @ Nom Voltage(Max)(mA): 0.01; Bits(#): 2; F @ Nom Voltage(Max)(Mhz): 250; Rating: Catalog; Technology Family: AUC; Voltage(Nom)(V): 0.8,1.2,1.5,1.8,2.5; Schmitt Trigger: No; Output Drive (IOL/IOH)(Max)(mA): 9/-9; tpd @ Nom Voltage(Max)(ns): 5,3.9,2.5,1.9,1.3; Logic: True; DatasheetVersion: SCES536C; PackageReference: DCU0008A; Supplier 1: Mouser; Supplier Part Number 1: 595-SN74AUC2G79DCUR; Supplier 2: Digi-Key; Supplier Part Number 2: 296-19057-2-ND; Supplier 3: Digi-Key; Supplier Part Number 3: 296-19057-1-ND; Supplier 4: Digi-Key; Supplier Part Number 4: 296-19057-6-ND; Input Type: CMOS; Operating Temperature Range(C): -40 to 85; 3-State Output: No; Sub-Family: D-Type Flip-Flop; ComponentLink1Description: Manufacturer URL; ComponentLink1URL: http://www.ti.com/; ComponentLink2Description: Datasheet; ComponentLink2URL: http://www.ti.com/lit/ds/symlink/sn74auc2g79.pdf
footprint DCU0008A_N (SOP, 8-Leads, Body 2.4x2.1mm, Pitch 0.5mm, IPC Medium Density)
footprint DCU0008A_M (SOP, 8-Leads, Body 2.4x2.1mm, Pitch 0.5mm, IPC Low Density)
footprint DCU0008A_L (SOP, 8-Leads, Body 2.4x2.1mm, Pitch 0.5mm, IPC High Density)
part A pins: 1 1CLK (in), 2 1D (in), 7 1Q (out)
part B pins: 3 2Q (out), 5 2CLK (in), 6 2D (in)
part C pins: 4 GND (power), 8 VCC (power)

## SN74AUC2G79YZPR
designator U?
Dual Positive-Edge-Triggered D-Type Flip-Flop, YZP0008ADAD, LARGE T&R; Generic Part Number: SN74AUC2G79; Manufacturer: Texas Instruments; PartNumber: SN74AUC2G79YZPR; VCC(Min)(V): 0.8; VCC(Max)(V): 2.7; Output Type: CMOS; ICC @ Nom Voltage(Max)(mA): 0.01; Bits(#): 2; F @ Nom Voltage(Max)(Mhz): 250; Rating: Catalog; Technology Family: AUC; Voltage(Nom)(V): 0.8,1.2,1.5,1.8,2.5; Schmitt Trigger: No; Output Drive (IOL/IOH)(Max)(mA): 9/-9; tpd @ Nom Voltage(Max)(ns): 5,3.9,2.5,1.9,1.3; Logic: True; DatasheetVersion: SCES536C; PackageReference: YZP0008ADAD; Supplier 1: Mouser; Supplier Part Number 1: 595-SN74AUC2G79YZPR; Supplier 2: Digi-Key; Supplier Part Number 2: 296-16641-2-ND; Supplier 3: Digi-Key; Supplier Part Number 3: 296-16641-1-ND; Supplier 4: Digi-Key; Supplier Part Number 4: 296-16641-6-ND; Input Type: CMOS; Operating Temperature Range(C): -40 to 85; 3-State Output: No; Sub-Family: D-Type Flip-Flop; ComponentLink1Description: Manufacturer URL; ComponentLink1URL: http://www.ti.com/; ComponentLink2Description: Datasheet; ComponentLink2URL: http://www.ti.com/lit/ds/symlink/sn74auc2g79.pdf
footprint YZP0008ADAD (BGA, 8-Balls, Body 1.89x0.89mm, Pitch 0.5mm)
part A pins: A1 1CLK (in), B1 1D (in), B2 1Q (out)
part B pins: C1 2Q (out), C2 2D (in), D2 2CLK (in)
part C pins: A2 VCC (power), D1 GND (power)

## SN74AUC2G80DCTR
designator U?
Dual Positive-Edge-Triggered D-Type Flip-Flop, DCT0008A, LARGE T&R; Generic Part Number: SN74AUC2G80; Manufacturer: Texas Instruments; PartNumber: SN74AUC2G80DCTR; VCC(Min)(V): 0.8; VCC(Max)(V): 2.7; Output Type: CMOS; ICC @ Nom Voltage(Max)(mA): 0.01; Bits(#): 2; F @ Nom Voltage(Max)(Mhz): 250; Rating: Catalog; Technology Family: AUC; Voltage(Nom)(V): 0.8,1.2,1.5,1.8,2.5; Schmitt Trigger: No; Output Drive (IOL/IOH)(Max)(mA): 9/-9; tpd @ Nom Voltage(Max)(ns): 5,3.9,2.5,1.9,1.3; Logic: True; DatasheetVersion: SCES540C; PackageReference: DCT0008A; Supplier 1: Mouser; Supplier Part Number 1: 595-SN74AUC2G80DCTR; Supplier 2: Digi-Key; Supplier Part Number 2: 296-19058-2-ND; Supplier 3: Digi-Key; Supplier Part Number 3: 296-19058-1-ND; Supplier 4: Digi-Key; Supplier Part Number 4: 296-19058-6-ND; Input Type: CMOS; Operating Temperature Range(C): -40 to 85; 3-State Output: No; Sub-Family: D-Type Flip-Flop; ComponentLink1Description: Manufacturer URL; ComponentLink1URL: http://www.ti.com/; ComponentLink2Description: Datasheet; ComponentLink2URL: http://www.ti.com/lit/ds/symlink/sn74auc2g80.pdf
footprint DCT0008A_N (SOP, 8-Leads, Body 2.9x3.2mm, Pitch 0.65mm, IPC Medium Density)
footprint DCT0008A_M (SOP, 8-Leads, Body 2.9x3.2mm, Pitch 0.65mm, IPC Low Density)
footprint DCT0008A_L (SOP, 8-Leads, Body 2.9x3.2mm, Pitch 0.65mm, IPC High Density)
part A pins: 1 1CLK (in), 2 1D (in), 7 1Q (out)
part B pins: 3 2Q (out), 5 2CLK (in), 6 2D (in)
part C pins: 4 GND (power), 8 VCC (power)

## SN74AUC2G80DCUR
designator U?
Dual Positive-Edge-Triggered D-Type Flip-Flop, DCU0008A, LARGE T&R; Generic Part Number: SN74AUC2G80; Manufacturer: Texas Instruments; PartNumber: SN74AUC2G80DCUR; VCC(Min)(V): 0.8; VCC(Max)(V): 2.7; Output Type: CMOS; ICC @ Nom Voltage(Max)(mA): 0.01; Bits(#): 2; F @ Nom Voltage(Max)(Mhz): 250; Rating: Catalog; Technology Family: AUC; Voltage(Nom)(V): 0.8,1.2,1.5,1.8,2.5; Schmitt Trigger: No; Output Drive (IOL/IOH)(Max)(mA): 9/-9; tpd @ Nom Voltage(Max)(ns): 5,3.9,2.5,1.9,1.3; Logic: True; DatasheetVersion: SCES540C; PackageReference: DCU0008A; Supplier 1: Mouser; Supplier Part Number 1: 595-SN74AUC2G80DCUR; Supplier 2: Digi-Key; Supplier Part Number 2: 296-19059-2-ND; Supplier 3: Digi-Key; Supplier Part Number 3: 296-19059-1-ND; Supplier 4: Digi-Key; Supplier Part Number 4: 296-19059-6-ND; Input Type: CMOS; Operating Temperature Range(C): -40 to 85; 3-State Output: No; Sub-Family: D-Type Flip-Flop; ComponentLink1Description: Manufacturer URL; ComponentLink1URL: http://www.ti.com/; ComponentLink2Description: Datasheet; ComponentLink2URL: http://www.ti.com/lit/ds/symlink/sn74auc2g80.pdf
footprint DCU0008A_N (SOP, 8-Leads, Body 2.4x2.1mm, Pitch 0.5mm, IPC Medium Density)
footprint DCU0008A_M (SOP, 8-Leads, Body 2.4x2.1mm, Pitch 0.5mm, IPC Low Density)
footprint DCU0008A_L (SOP, 8-Leads, Body 2.4x2.1mm, Pitch 0.5mm, IPC High Density)
part A pins: 1 1CLK (in), 2 1D (in), 7 1Q (out)
part B pins: 3 2Q (out), 5 2CLK (in), 6 2D (in)
part C pins: 4 GND (power), 8 VCC (power)

## SN74AUC2G80YZPR
designator U?
Dual Positive-Edge-Triggered D-Type Flip-Flop, YZP0008ADAD, LARGE T&R; Generic Part Number: SN74AUC2G80; Manufacturer: Texas Instruments; PartNumber: SN74AUC2G80YZPR; VCC(Min)(V): 0.8; VCC(Max)(V): 2.7; Output Type: CMOS; ICC @ Nom Voltage(Max)(mA): 0.01; Bits(#): 2; F @ Nom Voltage(Max)(Mhz): 250; Rating: Catalog; Technology Family: AUC; Voltage(Nom)(V): 0.8,1.2,1.5,1.8,2.5; Schmitt Trigger: No; Output Drive (IOL/IOH)(Max)(mA): 9/-9; tpd @ Nom Voltage(Max)(ns): 5,3.9,2.5,1.9,1.3; Logic: True; DatasheetVersion: SCES540C; PackageReference: YZP0008ADAD; Supplier 1: Mouser; Supplier Part Number 1: 595-SN74AUC2G80YZPR; Supplier 2: Digi-Key; Supplier Part Number 2: 296-16818-2-ND; Supplier 3: Digi-Key; Supplier Part Number 3: 296-16818-1-ND; Input Type: CMOS; Operating Temperature Range(C): -40 to 85; 3-State Output: No; Sub-Family: D-Type Flip-Flop; ComponentLink1Description: Manufacturer URL; ComponentLink1URL: http://www.ti.com/; ComponentLink2Description: Datasheet; ComponentLink2URL: http://www.ti.com/lit/ds/symlink/sn74auc2g80.pdf
footprint YZP0008ADAD (BGA, 8-Balls, Body 1.89x0.89mm, Pitch 0.5mm)
part A pins: A1 1CLK (in), B1 1D (in), B2 1~{Q} (out)
part B pins: C1 2~{Q} (out), C2 2D (in), D2 2CLK (in)
part C pins: A2 VCC (power), D1 GND (power)

## SN74AUC2G86DCTR
designator U?
DUAL 2-INPUT EXCLUSIVE-OR GATE, DCT0008A, LARGE T&R; Generic Part Number: SN74AUC2G86; Manufacturer: Texas Instruments; PartNumber: SN74AUC2G86DCTR; VCC(Min)(V): 0.8; VCC(Max)(V): 2.7; Output Type: CMOS; ICC @ Nom Voltage(Max)(mA): 0.01; Bits(#): 2; F @ Nom Voltage(Max)(Mhz): 250; Rating: Catalog; Technology Family: AUC; Voltage(Nom)(V): 0.8,1.2,1.5,1.8,2.5; Schmitt Trigger: No; Output Drive (IOL/IOH)(Max)(mA): 9/-9; tpd @ Nom Voltage(Max)(ns): 5.8,3.8,2.6,1.7,1.3; Logic: True; Gate Type: XOR; Sub-Family: XOR Gate; DatasheetVersion: SCES479B; PackageReference: DCT0008A; Supplier 1: Mouser; Supplier Part Number 1: 595-SN74AUC2G86DCTR; Supplier 2: Digi-Key; Supplier Part Number 2: 296-19060-2-ND; Supplier 3: Digi-Key; Supplier Part Number 3: 296-19060-1-ND; Supplier 4: Digi-Key; Supplier Part Number 4: 296-19060-6-ND; Input Type: CMOS; Operating Temperature Range(C): -40 to 85; 3-State Output: No; ComponentLink1Description: Manufacturer URL; ComponentLink1URL: http://www.ti.com/; ComponentLink2Description: Datasheet; ComponentLink2URL: http://www.ti.com/lit/ds/symlink/sn74auc2g86.pdf
footprint DCT0008A_N (SOP, 8-Leads, Body 2.9x3.2mm, Pitch 0.65mm, IPC Medium Density)
footprint DCT0008A_M (SOP, 8-Leads, Body 2.9x3.2mm, Pitch 0.65mm, IPC Low Density)
footprint DCT0008A_L (SOP, 8-Leads, Body 2.9x3.2mm, Pitch 0.65mm, IPC High Density)
part A pins: 1 1A (in), 2 1B (in), 7 1Y (out)
part B pins: 3 2Y (out), 5 2A (in), 6 2B (in)
part C pins: 4 GND (power), 8 VCC (power)

## SN74AUC2G86DCUR
designator U?
DUAL 2-INPUT EXCLUSIVE-OR GATE, DCU0008A, LARGE T&R; Generic Part Number: SN74AUC2G86; Manufacturer: Texas Instruments; PartNumber: SN74AUC2G86DCUR; VCC(Min)(V): 0.8; VCC(Max)(V): 2.7; Output Type: CMOS; ICC @ Nom Voltage(Max)(mA): 0.01; Bits(#): 2; F @ Nom Voltage(Max)(Mhz): 250; Rating: Catalog; Technology Family: AUC; Voltage(Nom)(V): 0.8,1.2,1.5,1.8,2.5; Schmitt Trigger: No; Output Drive (IOL/IOH)(Max)(mA): 9/-9; tpd @ Nom Voltage(Max)(ns): 5.8,3.8,2.6,1.7,1.3; Logic: True; Gate Type: XOR; Sub-Family: XOR Gate; DatasheetVersion: SCES479B; PackageReference: DCU0008A; Supplier 1: Mouser; Supplier Part Number 1: 595-SN74AUC2G86DCUR; Supplier 2: Digi-Key; Supplier Part Number 2: 296-16836-2-ND; Supplier 3: Digi-Key; Supplier Part Number 3: 296-16836-1-ND; Supplier 4: Digi-Key; Supplier Part Number 4: 296-16836-6-ND; Input Type: CMOS; Operating Temperature Range(C): -40 to 85; 3-State Output: No; ComponentLink1Description: Manufacturer URL; ComponentLink1URL: http://www.ti.com/; ComponentLink2Description: Datasheet; ComponentLink2URL: http://www.ti.com/lit/ds/symlink/sn74auc2g86.pdf
footprint DCU0008A_N (SOP, 8-Leads, Body 2.4x2.1mm, Pitch 0.5mm, IPC Medium Density)
footprint DCU0008A_M (SOP, 8-Leads, Body 2.4x2.1mm, Pitch 0.5mm, IPC Low Density)
footprint DCU0008A_L (SOP, 8-Leads, Body 2.4x2.1mm, Pitch 0.5mm, IPC High Density)
part A pins: 1 1A (in), 2 1B (in), 7 1Y (out)
part B pins: 3 2Y (out), 5 2A (in), 6 2B (in)
part C pins: 4 GND (power), 8 VCC (power)

## SN74AUC2G86DCURG4
designator U?
DUAL 2-INPUT EXCLUSIVE-OR GATE, DCU0008A, LARGE T&R; Generic Part Number: SN74AUC2G86; Manufacturer: Texas Instruments; PartNumber: SN74AUC2G86DCURG4; VCC(Min)(V): 0.8; VCC(Max)(V): 2.7; Output Type: CMOS; ICC @ Nom Voltage(Max)(mA): 0.01; Bits(#): 2; F @ Nom Voltage(Max)(Mhz): 250; Rating: Catalog; Technology Family: AUC; Voltage(Nom)(V): 0.8,1.2,1.5,1.8,2.5; Schmitt Trigger: No; Output Drive (IOL/IOH)(Max)(mA): 9/-9; tpd @ Nom Voltage(Max)(ns): 5.8,3.8,2.6,1.7,1.3; Logic: True; Gate Type: XOR; Sub-Family: XOR Gate; DatasheetVersion: SCES479B; PackageReference: DCU0008A; Supplier 1: Mouser; Supplier Part Number 1: 595-74AUC2G86DCURG4; Supplier 2: Digi-Key; Supplier Part Number 2: SN74AUC2G86DCURG4-ND; Input Type: CMOS; Operating Temperature Range(C): -40 to 85; 3-State Output: No; ComponentLink1Description: Manufacturer URL; ComponentLink1URL: http://www.ti.com/; ComponentLink2Description: Datasheet; ComponentLink2URL: http://www.ti.com/lit/ds/symlink/sn74auc2g86.pdf
footprint DCU0008A_N (SOP, 8-Leads, Body 2.4x2.1mm, Pitch 0.5mm, IPC Medium Density)
footprint DCU0008A_M (SOP, 8-Leads, Body 2.4x2.1mm, Pitch 0.5mm, IPC Low Density)
footprint DCU0008A_L (SOP, 8-Leads, Body 2.4x2.1mm, Pitch 0.5mm, IPC High Density)
part A pins: 1 1A (in), 2 1B (in), 7 1Y (out)
part B pins: 3 2Y (out), 5 2A (in), 6 2B (in)
part C pins: 4 GND (power), 8 VCC (power)

## SN74AUC2G86YZPR
designator U?
DUAL 2-INPUT EXCLUSIVE-OR GATE, YZP0008ADAD, LARGE T&R; Generic Part Number: SN74AUC2G86; Manufacturer: Texas Instruments; PartNumber: SN74AUC2G86YZPR; VCC(Min)(V): 0.8; VCC(Max)(V): 2.7; Output Type: CMOS; ICC @ Nom Voltage(Max)(mA): 0.01; Bits(#): 2; F @ Nom Voltage(Max)(Mhz): 250; Rating: Catalog; Technology Family: AUC; Voltage(Nom)(V): 0.8,1.2,1.5,1.8,2.5; Schmitt Trigger: No; Output Drive (IOL/IOH)(Max)(mA): 9/-9; tpd @ Nom Voltage(Max)(ns): 5.8,3.8,2.6,1.7,1.3; Logic: True; Gate Type: XOR; Sub-Family: XOR Gate; DatasheetVersion: SCES479B; PackageReference: YZP0008ADAD; Supplier 1: Mouser; Supplier Part Number 1: 595-SN74AUC2G86YZPR; Supplier 2: Digi-Key; Supplier Part Number 2: 296-19062-2-ND; Supplier 3: Digi-Key; Supplier Part Number 3: 296-19062-1-ND; Input Type: CMOS; Operating Temperature Range(C): -40 to 85; 3-State Output: No; ComponentLink1Description: Manufacturer URL; ComponentLink1URL: http://www.ti.com/; ComponentLink2Description: Datasheet; ComponentLink2URL: http://www.ti.com/lit/ds/symlink/sn74auc2g86.pdf
footprint YZP0008ADAD (BGA, 8-Balls, Body 1.89x0.89mm, Pitch 0.5mm)
part A pins: A1 1A (in), B1 1B (in), B2 1Y (out)
part B pins: C1 2Y (out), C2 2B (in), D2 2A (in)
part C pins: A2 VCC (power), D1 GND (power)

## SN74AUC2G125DCTR
designator U?
Dual Bus Buffer Gate with 3-State Outputs, DCT0008A, LARGE T&R; Generic Part Number: SN74AUC2G125; Manufacturer: Texas Instruments; PartNumber: SN74AUC2G125DCTR; DatasheetVersion: SCES532D; PackageReference: DCT0008A; Supplier 1: Mouser; Supplier Part Number 1: 595-SN74AUC2G125DCTR; Supplier 2: Digi-Key; Supplier Part Number 2: 296-18881-2-ND; Supplier 3: Digi-Key; Supplier Part Number 3: 296-18881-1-ND; Supplier 4: Digi-Key; Supplier Part Number 4: 296-18881-6-ND; ComponentLink1Description: Manufacturer URL; ComponentLink1URL: http://www.ti.com/; ComponentLink2Description: Datasheet; ComponentLink2URL: http://www.ti.com/lit/ds/symlink/sn74auc2g125.pdf
footprint DCT0008A_N (SOP, 8-Leads, Body 2.9x3.2mm, Pitch 0.65mm, IPC Medium Density)
footprint DCT0008A_M (SOP, 8-Leads, Body 2.9x3.2mm, Pitch 0.65mm, IPC Low Density)
footprint DCT0008A_L (SOP, 8-Leads, Body 2.9x3.2mm, Pitch 0.65mm, IPC High Density)
part A pins: 1 1~{OE} (in) "Output Enable for buffer 1", 2 1A (in) "Input", 6 1Y (hiz) "Output"
part B pins: 3 2Y (hiz) "Output", 5 2A (in) "Input", 7 2~{OE} (in) "Output Enable for buffer 2"
part C pins: 4 GND (power) "Ground Pin", 8 VCC (power) "Power Pin"

## SN74AUC2G125DCUR
designator U?
Dual Bus Buffer Gate with 3-State Outputs, DCU0008A, LARGE T&R; Generic Part Number: SN74AUC2G125; Manufacturer: Texas Instruments; PartNumber: SN74AUC2G125DCUR; DatasheetVersion: SCES532D; PackageReference: DCU0008A; Supplier 1: Mouser; Supplier Part Number 1: 595-SN74AUC2G125DCUR; Supplier 2: Digi-Key; Supplier Part Number 2: 296-17925-2-ND; Supplier 3: Digi-Key; Supplier Part Number 3: 296-17925-1-ND; Supplier 4: Digi-Key; Supplier Part Number 4: 296-17925-6-ND; ComponentLink1Description: Manufacturer URL; ComponentLink1URL: http://www.ti.com/; ComponentLink2Description: Datasheet; ComponentLink2URL: http://www.ti.com/lit/ds/symlink/sn74auc2g125.pdf
footprint DCU0008A_N (SOP, 8-Leads, Body 2.4x2.1mm, Pitch 0.5mm, IPC Medium Density)
footprint DCU0008A_M (SOP, 8-Leads, Body 2.4x2.1mm, Pitch 0.5mm, IPC Low Density)
footprint DCU0008A_L (SOP, 8-Leads, Body 2.4x2.1mm, Pitch 0.5mm, IPC High Density)
part A pins: 1 1~{OE} (in) "Output Enable for buffer 1", 2 1A (in) "Input", 6 1Y (hiz) "Output"
part B pins: 3 2Y (hiz) "Output", 5 2A (in) "Input", 7 2~{OE} (in) "Output Enable for buffer 2"
part C pins: 4 GND (power) "Ground Pin", 8 VCC (power) "Power Pin"

## SN74AUC2G125YZPR
designator U?
Dual Bus Buffer Gate with 3-State Outputs, YZP0008ADAD, LARGE T&R; Generic Part Number: SN74AUC2G125; Manufacturer: Texas Instruments; PartNumber: SN74AUC2G125YZPR; DatasheetVersion: SCES532D; PackageReference: YZP0008ADAD; Supplier 1: Mouser; Supplier Part Number 1: 595-SN74AUC2G125YZPR; Supplier 2: Digi-Key; Supplier Part Number 2: 296-16800-2-ND; Supplier 3: Digi-Key; Supplier Part Number 3: 296-16800-1-ND; ComponentLink1Description: Manufacturer URL; ComponentLink1URL: http://www.ti.com/; ComponentLink2Description: Datasheet; ComponentLink2URL: http://www.ti.com/lit/ds/symlink/sn74auc2g125.pdf
footprint YZP0008ADAD (BGA, 8-Balls, Body 1.89x0.89mm, Pitch 0.5mm)
part A pins: A1 1~{OE} (in) "Output Enable for buffer 1", B1 1A (in) "Input", C2 1Y (hiz) "Output"
part B pins: B2 2~{OE} (in) "Output Enable for buffer 2", C1 2Y (hiz) "Output", D2 2A (in) "Input"
part C pins: A2 VCC (power) "Power pin", D1 GND (power) "Ground"